# Altium schematic symbol library TOY.SchLib: 2 symbols
Pins are listed as number, name and electrical type; pins without a type are passive.

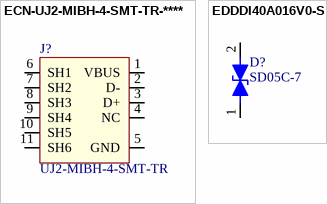
[diagram p0: symbols ECN-UJ2-MIBH-4-SMT-TR-**** to EDDDI40A016V0-S]

## ECN-UJ2-MIBH-4-SMT-TR-****
designator J?, comment value UJ2-MIBH-4-SMT-TR  (hidden comment: CONN RCPT USB2.0 MICRO B SMD R/A)
Manufacturer: CUI Devices; Internal Part Number: ECN-UJ2-MIBH-4-SMT-TR-****; Vendor Part Number: 102-4006-1-ND; Component Height (mm): 4.2; 3rd Auxiliary Field: RoHS Compliant; Vendor Name: Digi-Key; Temp Co: -25°C ~ 85°C; 1st Auxiliary Field: USB - micro B; 2nd Auxiliary Field: 5 POS; Manufacturer Part Number: UJ2-MIBH-4-SMT-TR; Part Type: CONN RCPT USB2.0 MICRO B SMD R/A; 4th Auxiliary Field: *
footprint CUI_ UJ2-MIBH-4-SMT-TR
pins: 1 VBUS, 2 D-, 3 D+, 4 NC, 5 GND, 6 SH1, 7 SH2, 8 SH3, 9 SH4, 10 SH5, 11 SH6

## EDDDI40A016V0-S
designator D?, comment value SD05C-7  (hidden comment: TVS DIODE 5.5V 16V SOD323)
Manufacturer: Diodes Incorporated; Vendor Part Number: 31-SD05C-7CT-ND; Internal Part Number: EDDDI40A016V0-S; Vendor Name: Digi-Key; 3rd Auxiliary Field: RoHS Compliant; Component Height (mm): 1.10; Temp Co: -65°C ~ 150°C (TJ); 2nd Auxiliary Field: 40A; Part Type: TVS DIODE 5.5V 16V SOD323; Manufacturer Part Number: SD05C-7; 4th Auxiliary Field: *; 1st Auxiliary Field: 16V
footprint SOD250X110-2N (SOD, 2-Leads, Body 1.25x2.50mm, IPC Medium Density)
pins: 1 K, 2 A